# EAGLE library part PIC18F4*_40 (library microchip)
USB Microcontrollers with nanoWatt Technology High-Performance, Enhanced Flash, 28/40/44-Pin, Source: http://ww1.microchip.com/downloads/en/devicedoc/39632c.pdf
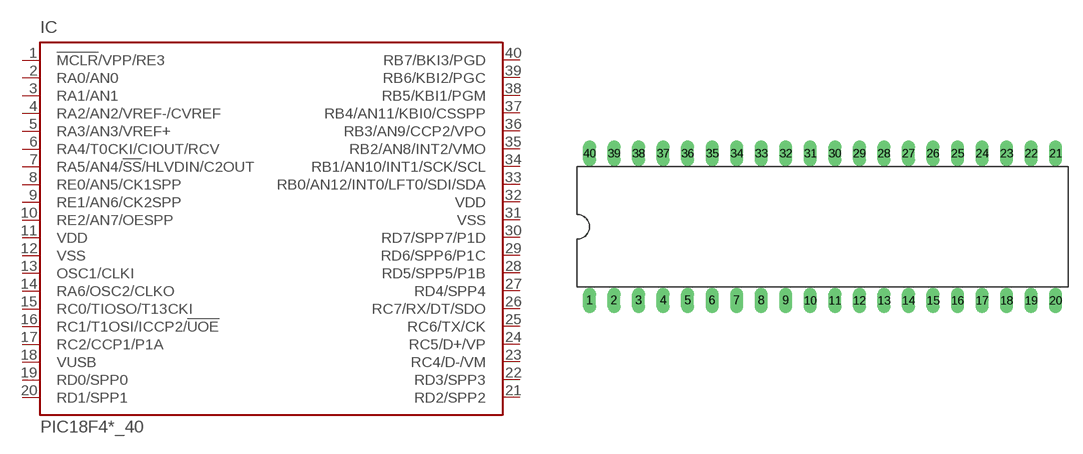
[diagram p118: symbol with the pads of DIL40; footprint DIL40]

Designator prefix IC

## PIC18F4455_40 (MF: MICROCHIP; MPN: PIC18F4455-I/P; OC_FARNELL: 9321314; OC_NEWARK: 05K2028), PIC18F4550_40 (MF: MICROCHIP; MPN: PIC18F4550-I/P; OC_FARNELL: 9321357; OC_NEWARK: 74K8623)  [DIL40]
1  !MCLR!/VPP/RE3  in
2  RA0/AN0
3  RA1/AN1
4  RA2/AN2/VREF-/CVREF
5  RA3/AN3/VREF+
6  RA4/T0CKI/CIOUT/RCV
7  RA5/AN4/!SS!/HLVDIN/C2OUT
8  RE0/AN5/CK1SPP
9  RE1/AN6/CK2SPP
10  RE2/AN7/OESPP
11  VDD  pwr
12  VSS  pwr
13  OSC1/CLKI  in
14  RA6/OSC2/CLKO  out
15  RC0/TIOSO/T13CKI
16  RC1/T1OSI/ICCP2/!UOE
17  RC2/CCP1/P1A
18  VUSB
19  RD0/SPP0
20  RD1/SPP1
21  RD2/SPP2
22  RD3/SPP3
23  RC4/D-/VM
24  RC5/D+/VP
25  RC6/TX/CK
26  RC7/RX/DT/SDO
27  RD4/SPP4
28  RD5/SPP5/P1B
29  RD6/SPP6/P1C
30  RD7/SPP7/P1D
31  VSS  pwr
32  VDD  pwr
33  RB0/AN12/INT0/LFT0/SDI/SDA
34  RB1/AN10/INT1/SCK/SCL
35  RB2/AN8/INT2/VMO
36  RB3/AN9/CCP2/VPO
37  RB4/AN11/KBI0/CSSPP
38  RB5/KBI1/PGM
39  RB6/KBI2/PGC
40  RB7/BKI3/PGD

## Footprint DIL40 (pad centres in mm)
Dual In Line package type P
drill 0.813 long: 1 -24.13,-7.62; 2 -21.59,-7.62; 3 -19.05,-7.62; 4 -16.51,-7.62; 5 -13.97,-7.62; 6 -11.43,-7.62; 7 -8.89,-7.62; 8 -6.35,-7.62; 9 -3.81,-7.62; 10 -1.27,-7.62; 11 1.27,-7.62; 12 3.81,-7.62; 13 6.35,-7.62; 14 8.89,-7.62; 15 11.43,-7.62; 16 13.97,-7.62; 17 16.51,-7.62; 18 19.05,-7.62; 19 21.59,-7.62; 20 24.13,-7.62; 21 24.13,7.62; 22 21.59,7.62; 23 19.05,7.62; 24 16.51,7.62; 25 13.97,7.62; 26 11.43,7.62; 27 8.89,7.62; 28 6.35,7.62; 29 3.81,7.62; 30 1.27,7.62; 31 -1.27,7.62; 32 -3.81,7.62; 33 -6.35,7.62; 34 -8.89,7.62; 35 -11.43,7.62; 36 -13.97,7.62; 37 -16.51,7.62; 38 -19.05,7.62; 39 -21.59,7.62; 40 -24.13,7.62